# Altium schematic symbol library Transceiver for KNx.SchLib: 11 symbols
Pins are listed as number, name and electrical type; pins without a type are passive.

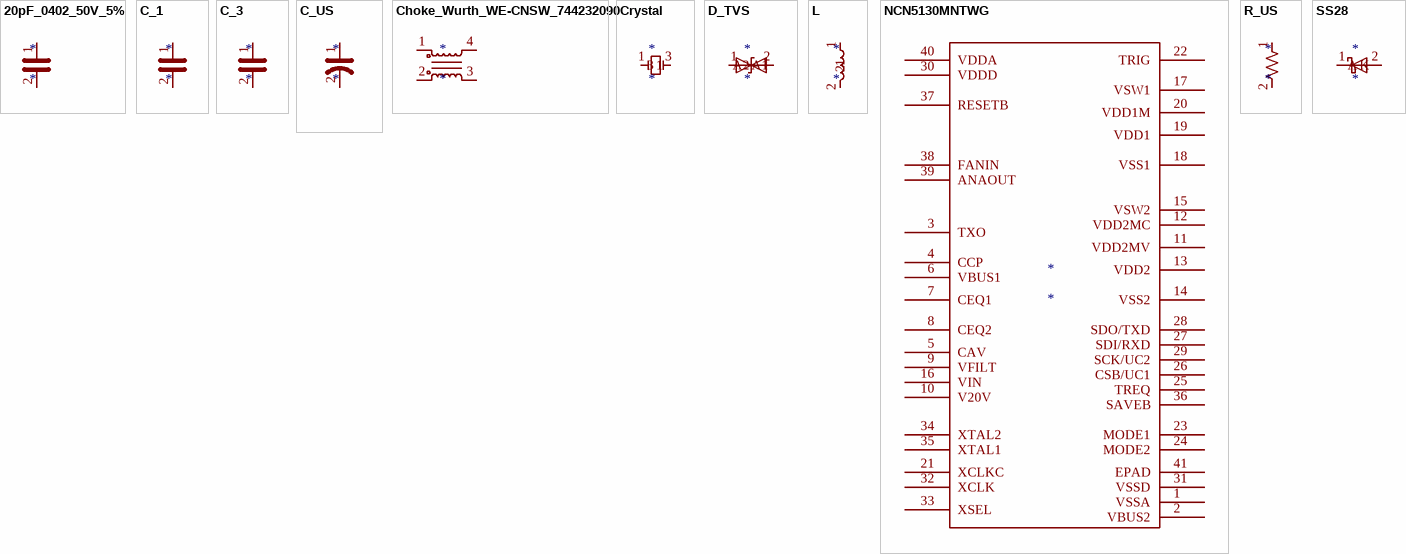
[diagram p0: symbols 20pF_0402_50V_5% to SS28]

## 20pF_0402_50V_5%
designator *
pins: 1, 2

## C_1
designator *
pins: 1, 2

## C_3
designator *
pins: 1, 2

## C_US
designator *
pins: 1, 2

## Choke_Wurth_WE-CNSW_744232090
designator *
pins: 1, 2, 3, 4

## Crystal
designator *
pins: 1, 3

## D_TVS
designator *
pins: 1 A1, 2 A2

## L
designator *
pins: 1, 2

## NCN5130MNTWG
designator *
pins: 1 VSSA, 2 VBUS2, 3 TXO, 4 CCP, 5 CAV, 6 VBUS1, 7 CEQ1, 8 CEQ2, 9 VFILT, 10 V20V, 11 VDD2MV, 12 VDD2MC, 13 VDD2, 14 VSS2, 15 VSW2, 16 VIN, 17 VSW1, 18 VSS1, 19 VDD1, 20 VDD1M, 21 XCLKC, 22 TRIG, 23 MODE1, 24 MODE2, 25 TREQ, 26 CSB/UC1, 27 SDI/RXD, 28 SDO/TXD, 29 SCK/UC2, 30 VDDD, 31 VSSD, 32 XCLK, 33 XSEL, 34 XTAL2, 35 XTAL1, 36 SAVEB, 37 RESETB, 38 FANIN, 39 ANAOUT, 40 VDDA, 41 EPAD

## R_US
designator *
pins: 1, 2

## SS28
designator *
pins: 1 K, 2 A